# EAGLE library part ZX62-B-5PA (library con-Hirose)
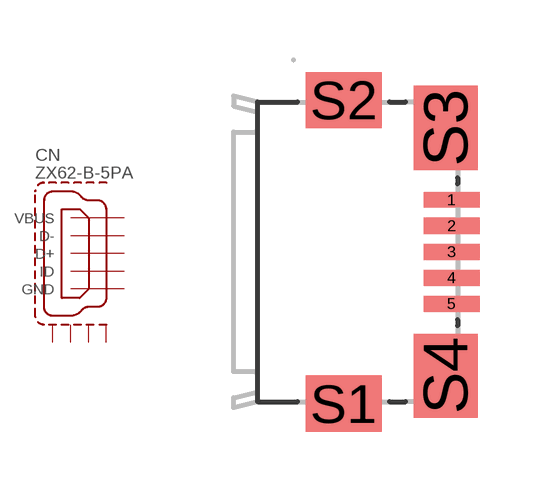
[diagram p19: symbol with the pads of ZX62-B-5PA; footprint ZX62-B-5PA]

Designator prefix CN

## ZX62-B-5PA  [ZX62-B-5PA]
1  VBUS  pas
2  D-  pas
3  D+  pas
4  ID  pas
5  GND  pas
S1  S1  pas
S2  S2  pas
S3  S3  pas
S4  S4  pas

## Footprint ZX62-B-5PA (pad centres in mm)
smd 1.4 x 0.4: 1 2.7,1.3; 2 2.7,0.65; 3 2.7,0; 4 2.7,-0.65; 5 2.7,-1.3
smd 1.9 x 1.4: S1 0,-3.8; S2 0,3.8
smd 1.6 x 2.1: S3 2.55,3.1; S4 2.55,-3.1